# Altium schematic symbol library TPS7A0218.SchLib: 1 symbol
Pins are listed as number, name and electrical type; pins without a type are passive.

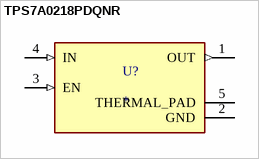
[diagram p0: symbol TPS7A0218PDQNR]

## TPS7A0218PDQNR
designator U?
200mA, nanopower-IQ (25 nA), low-dropout (LDO) voltage regulator with enable; MF: Texas Instruments; MP: TPS7A0218PDQNR; SnapEDA_Link: https://www.snapeda.com/parts/TPS7A0218PDQNR/Texas+Instruments/view-part/?ref=snap; Package: X2SON-4 Texas Instruments; Value: *; Check_prices: https://www.snapeda.com/parts/TPS7A0218PDQNR/Texas+Instruments/view-part/?ref=eda
footprint IC_TPS7A0218PDQNR
pins: 1 OUT (out), 2 GND (power), 3 EN (in), 4 IN (in), 5 THERMAL_PAD (power)